# EAGLE library part EA-DOG-M_LCD (library 1_USER)
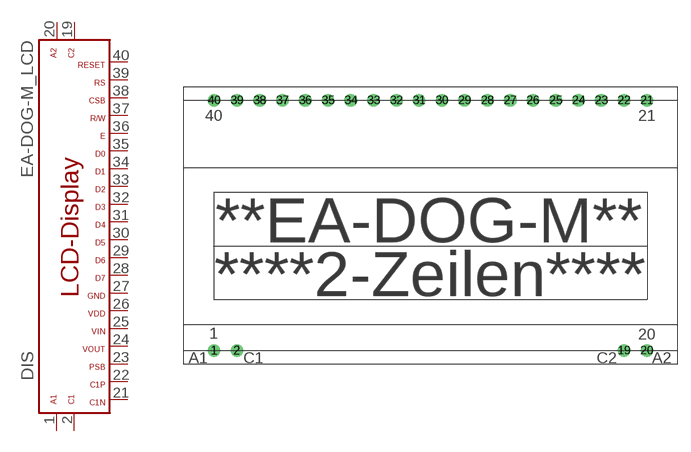
[diagram p3: symbol with the pads of EA-DOG-M_LCD; footprint EA-DOG-M_LCD]

Designator prefix DIS

## EA-DOG-M_LCD  [EA-DOG-M_LCD]
1  1  pas
2  2  pas
19  19  pas
20  20  pas
21  21
22  22
23  23
24  24
25  25
26  26  pwr
27  27  pwr
28  28
29  29
30  30
31  31
32  32
33  33
34  34
35  35
36  36
37  37
38  38
39  39
40  40

## Footprint EA-DOG-M_LCD (pad centres in mm)
drill 0.9 round: 1 -24.13,-27.94; 2 -21.59,-27.94; 19 21.59,-27.94; 20 24.13,-27.94; 21 24.13,0; 22 21.59,0; 23 19.05,0; 24 16.51,0; 25 13.97,0; 26 11.43,0; 27 8.89,0; 28 6.35,0; 29 3.81,0; 30 1.27,0; 31 -1.27,0; 32 -3.81,0; 33 -6.35,0; 34 -8.89,0; 35 -11.43,0; 36 -13.97,0; 37 -16.51,0; 38 -19.05,0; 39 -21.59,0; 40 -24.13,0